# EAGLE library part 09552666820741 (library SamacSys_Parts)
Harting D-Sub Standard Series 2.76mm Pitch 15 Way Right Angle SMT PCB D-sub Connector, Plug Source: Datasheet <https://componentsearchengine.com/Datasheets/1/09552666820741.pdf>
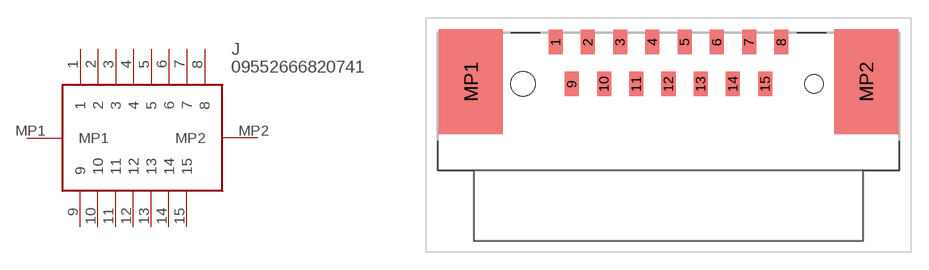
[diagram p209: symbol with the pads of 09552666820741; footprint 09552666820741]

Designator prefix J

## 09552666820741 (DESCRIPTION: Harting D-Sub Standard Series 2.76mm Pitch 15 Way Right Angle SMT PCB D-sub Connector, Plug; HEIGHT: 9.85mm; MANUFACTURER_NAME: HARTING; MANUFACTURER_PART_NUMBER: 09552666820741; MOUSER_PART_NUMBER: 617-09552666820741; MOUSER_PRICE-STOCK: https://www.mouser.com/Search/Refine.aspx?Keyword=617-09552666820741)  [09552666820741]
1  1
2  2
3  3
4  4
5  5
6  6
7  7
8  8
9  9
10  10
11  11
12  12
13  13
14  14
15  15
MP1  MP1
MP2  MP2

## Footprint 09552666820741 (pad centres in mm)
09552666820741-1
smd 1.2 x 2.1: 1 -9.66,3.6; 2 -6.9,3.6; 3 -4.14,3.6; 4 -1.38,3.6; 5 1.38,3.6; 6 4.14,3.6; 7 6.9,3.6; 8 9.66,3.6; 9 -8.28,0; 10 -5.52,0; 11 -2.76,0; 12 0,0; 13 2.76,0; 14 5.52,0; 15 8.28,0
smd 5.45 x 9: MP1 -16.925,0.2; MP2 16.925,0.2
hole 2.1 at -12.45,0
hole 1.6 at 12.45,0